# Altium footprint library LIB_TEMP_P20_CHARLES_NORMANDEAU_PCB.PcbLib: 2 footprints
Each footprint in its own frame and in the unit in brackets; x right, y up, seen from the top. Pads: shape width x height; smd on the part's side, far side on the other; paste and mask are expansions set on the pad; w line width, h text height; cw(c..) or ccw(c..) is an arc to the next point about the centre after c.
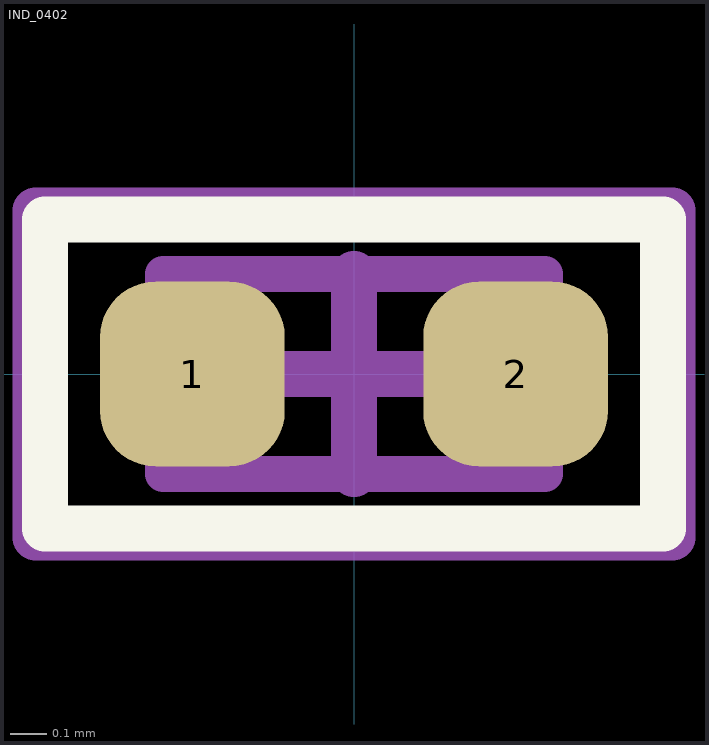
[diagram p0: the footprints below, top view; thin cyan lines are the x and y axes]

## IND_0402 [mil] "Ferrite - 0402"
height 23.62
pads (2):
  rrect60% 20x20 smd paste+0 mask+1.97: 1(-17.5,0) 2(17.5,0)
Top Overlay:
  lines w5: -33.46,-16.73 33.46,-16.73 33.46,16.73 -33.46,16.73 -33.46,-16.73
Top Assembly Drawing:
  lines w3.94: -20.67,-10.83 20.67,-10.83 20.67,10.83 -20.67,10.83 -20.67,-10.83
Top Courtyard:
  lines w5: -10.83,0 10.83,0 ; 0,-10.83 0,10.83 ; -34.45,-17.72 -34.45,17.72 34.45,17.72 34.45,-17.72 -34.45,-17.72
3D body "44278.stp": height 19.29, standoff -0.39, extent -19.69,-9.84 19.68,9.84

## PCBComponent_1 [mil]